# Altium footprint library Footprints.PcbLib: 44 footprints (part 3 of 3)
Each footprint in its own frame and in the unit in brackets; x right, y up, seen from the top. Pads: shape width x height; smd on the part's side, far side on the other; paste and mask are expansions set on the pad; w line width, h text height; cw(c..) or ccw(c..) is an arc to the next point about the centre after c.
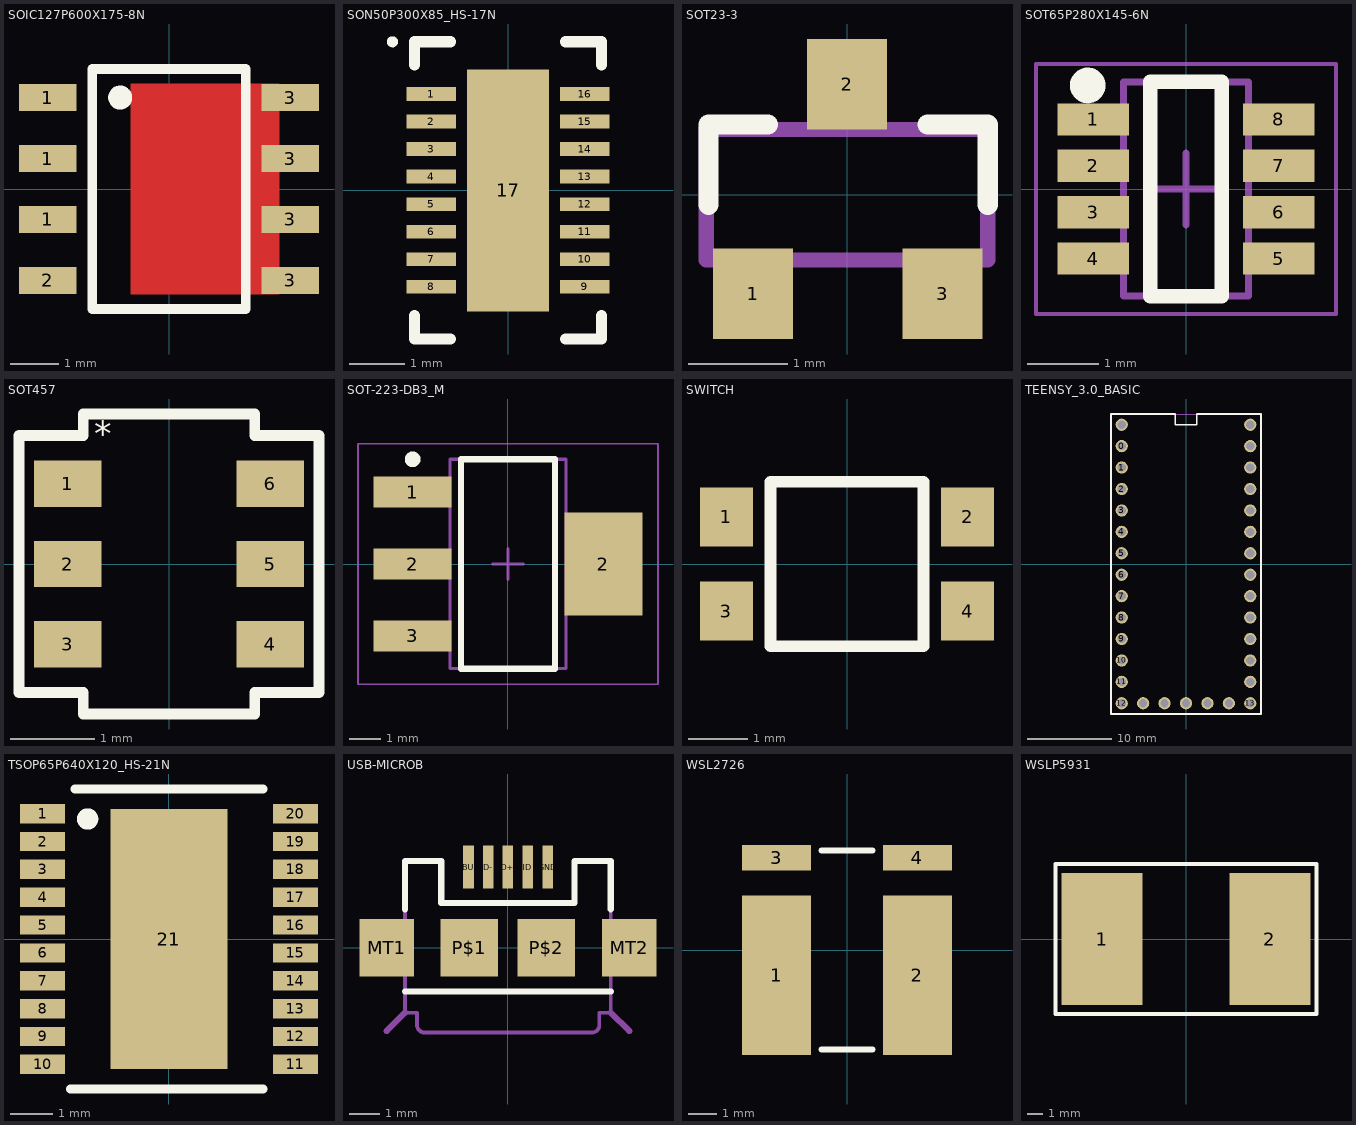
[diagram p2: the footprints below, top view; thin cyan lines are the x and y axes]

## SOIC127P600X175-8N [mm] "SOIC, 8-Leads, Body 4.90x3.90mm, Pitch 1.27mm, IPC Medium Density"
height 1.75
pads (8):
  rect 1.194x0.56 smd: 1(-2.528,-0.635) 1(-2.528,0.635) 1(-2.528,1.905) 2(-2.528,-1.905) 3(2.527,-1.905) 3(2.527,-0.635) 3(2.527,0.635) 3(2.527,1.905)
Top Layer:
  rectangle: -0.8,-2.2 2.3,2.2
Top Overlay:
  circle w0.25: c-1.016,1.905 r0.125
  lines w0.2: -1.6,-2.5 1.6,-2.5 1.6,2.5 -1.6,2.5 -1.6,-2.5
3D body: height 1.75, standoff 0.1, extent -2.025,-2.5 1.975,2.5

## SON50P300X85_HS-17N [mm] "SON, 16-Leads, Body 5.00x3.00mm, Pitch 0.50mm, Thermal Pad 4.40x1.49mm, IPC Medium Density"
height 0.85
pads (17):
  rect 0.9x0.25 smd mask+0.076: 1(-1.395,1.75) 2(-1.395,1.25) 3(-1.395,0.75) 4(-1.395,0.25) 5(-1.395,-0.25) 6(-1.395,-0.75) 7(-1.395,-1.25) 8(-1.395,-1.75) 9(1.395,-1.75) 10(1.395,-1.25) 11(1.395,-0.75) 12(1.395,-0.25) 13(1.395,0.25) 14(1.395,0.75) 15(1.395,1.25) 16(1.395,1.75)
  rect 1.49x4.4 smd mask+0.076: 17(0,0)
Top Overlay:
  circle w0.1: c-2.1,2.7 r0.05
  lines w0.2: -1.7,-2.275 -1.7,-2.7 -1.045,-2.7 ; -1.7,2.275 -1.7,2.7 -1.045,2.7 ; 1.045,-2.7 1.7,-2.7 1.7,-2.275 ; 1.045,2.7 1.7,2.7 1.7,2.275
3D body "User Library-DFN-12.STEP": height 0.8, standoff 0, extent -1.56,-2.05 1.56,2.05

## SOT23-3 [mil]
pads (3):
  rect 32x36 smd: 1(-37.4,-39.37) 2(0,44) 3(38,-39.37)
Top Overlay:
  lines w8: -55.12,-3.94 -55.12,28 -31.5,28 ; 32,28 56,28 56,-3.94
Mechanical 16:
  lines w6: -56,-26 56,-26 56,26 -56,26 -56,-26
3D body "SOT-23.stp": height 39.37, standoff 0, extent -58.07,-50.2 60.04,50.2

## SOT65P280X145-6N [mm] "SOT23, 6-Leads, Body 2.90x2.80mm, Pitch 0.65mm, IPC Medium Density"
height 1.45
pads (8):
  rect 1x0.45 smd mask+0.08: 1(-1.3,0.975) 2(-1.3,0.325) 3(-1.3,-0.325) 4(-1.3,-0.975) 5(1.3,-0.975) 6(1.3,-0.325) 7(1.3,0.325) 8(1.3,0.975)
Top Overlay:
  circle w0.25: c-1.375,1.45 r0.125
  lines w0.2: -0.5,-1.5 0.5,-1.5 0.5,1.5 -0.5,1.5 -0.5,-1.5
Mechanical 13:
  lines w0.1: -0.875,-1.5 -0.875,1.5 0.875,1.5 0.875,-1.5 -0.875,-1.5
Mechanical 15:
  lines w0.05: -2.1,-1.75 -2.1,1.75 2.1,1.75 2.1,-1.75 -2.1,-1.75
  lines w0.1: -0.5,0 0.5,0 ; 0,-0.5 0,0.5
3D body: height 1.45, standoff 0.15, extent -0.875,-1.5 0.875,1.5

## SOT457 [mm]
pads (6):
  rect 0.8x0.55 smd: 1(-1.2,0.95) 2(-1.2,0) 3(-1.2,-0.95) 4(1.2,-0.95) 5(1.2,0) 6(1.2,0.95)
Top Overlay:
  lines w0.127: -1.778,-1.524 -1.778,1.524 -1.016,1.524 -1.016,1.778 1.016,1.778 1.016,1.524 1.778,1.524 1.778,-1.524 1.016,-1.524 1.016,-1.778 -1.016,-1.778 -1.016,-1.524 -1.778,-1.524
  text "*" at -0.889,1.397 h0.3

## SOT-223-DB3_M [mm] "SOT223, 4-Leads, Body 6.5x3.5mm, Pitch 2.3mm, Lead Span 7mm, IPC Low Density"
height 1.8
pads (4):
  rect 2.5x1 smd: 1(-3.05,2.3) 2(-3.05,0) 3(-3.05,-2.3)
  rect 2.5x3.3 smd: 2(3.05,0)
Top Overlay:
  circle w0.25: c-3.05,3.35 r0.125
  lines w0.2: -1.5,-3.35 1.5,-3.35 1.5,3.35 -1.5,3.35 -1.5,-3.35
Mechanical 13:
  lines w0.1: -1.85,-3.35 1.85,-3.35 1.85,3.35 -1.85,3.35 -1.85,-3.35
Mechanical 15:
  lines w0.05: -4.8,-3.85 4.8,-3.85 4.8,3.85 -4.8,3.85 -4.8,-3.85
  lines w0.1: -0.5,0 0.5,0 ; 0,-0.5 0,0.5
3D body: height 1.8, standoff 0.02, extent -1.85,-3.35 1.85,3.35

## SWITCH [mm]
pads (4):
  rect 0.9x1 smd: 1(-2.05,0.8) 2(2.05,0.8) 3(-2.05,-0.8) 4(2.05,-0.8)
Top Overlay:
  lines w0.2: -1.3,-1.4 -1.3,1.4 1.3,1.4 1.3,-1.4 -1.3,-1.4
3D body "KMR4.STEP": height 1.9, standoff 0, extent -2.3,-1.4 2.3,1.4

## TEENSY_3.0_BASIC [mil]
pads (33):
  round 57 hole 38: 0(-300,550) 1(-300,450) 2(-300,350) 3(-300,250) 3.3V(300,450) 3.3V1(-100,-650) 4(-300,150) 5(-300,50) 6(-300,-50) 7(-300,-150) 8(-300,-250) 9(-300,-350) 10(-300,-450) 11(-300,-550) 12(-300,-650) 13(300,-650) 14/A0(300,-550) 15/A1(300,-450) 16/A2(300,-350) 17/A3(300,-250) 18/A4(300,-150) 19/A5(300,-50) 20/A6(300,50) 21/A7(300,150) 22/A8(300,250) 23/A9(300,350) AGND(300,550) GND(-300,650) GND1(0,-650) PGM(100,-650) RESET(200,-650) VBAT(-200,-650) VIN(300,650)
Top Overlay:
  lines w8: -350,-700 350,-700 350,700 50,700 50,650 -50,650 -50,700 -350,700 -350,-700
Mechanical 16:
  lines w5: -350,-700 350,-700 350,700 -350,700 -350,-700
3D body "Teensy 3.1.stp": height 505.09, standoff 334.03, extent -344.37,-708.11 334.37,710
3D body "61300511821.stp": height 335.32, standoff -121.37, extent -259.84,-699.21 259.85,-600.78
3D body "61301411821.stp": height 335.32, standoff -121.37, extent -348.43,-700 -250,719.68
3D body "61301411821.stp": height 335.32, standoff -121.37, extent 250.79,-700 349.21,719.68

## TSOP65P640X120_HS-21N [mm] "TSOP, 20-Leads, Body 6.50x4.40mm, Pitch 0.65mm, Thermal Pad 6.07x2.74mm, IPC Medium Density"
height 1.2
pads (21):
  rect 1.05x0.45 smd: 1(-2.95,2.925) 2(-2.95,2.275) 3(-2.95,1.625) 4(-2.95,0.975) 5(-2.95,0.325) 6(-2.95,-0.325) 7(-2.95,-0.975) 8(-2.95,-1.625) 9(-2.95,-2.275) 10(-2.95,-2.925) 11(2.95,-2.925) 12(2.95,-2.275) 13(2.95,-1.625) 14(2.95,-0.975) 15(2.95,-0.325) 16(2.95,0.325) 17(2.95,0.975) 18(2.95,1.625) 19(2.95,2.275) 20(2.95,2.925)
  rect 2.74x6.07 smd: 21(0,0)
Top Overlay:
  circle w0.25: c-1.9,2.8 r0.125
  lines w0.2: -2.3,-3.5 2.2,-3.5 ; -2.2,3.5 2.2,3.5

## USB-MICROB [mil]
pads (9):
  rect 14x56 smd: D+(0,105) D-(-25.59,105) GND(52,105) ID(26,105) VBUS(-51.18,105)
  rect 71x75 smd: MT1(-157.48,0) MT2(158,0)
  rect 75x75 smd: P$1(-50,0) P$2(50,0)
Top Overlay:
  lines w8: -133.86,-57.09 134,-57.09 ; -133.86,50 -133.86,113 -86.61,113 -86.61,58 87,58 87,113 134,113 134,50
Mechanical 16:
  lines w5: -133.86,-57.09 134,-57.09 ; -133.86,-57.09 -133.86,113 -86.61,113 -86.61,58 87,58 87,113 134,113 134,-57.09 ; -133.86,-57.09 -133.86,-84.65 -118.11,-84.65 -118.11,-100.39 ccw(c-108.76,-100.98) -110.24,-110.24 109,-110.24 ccw(c109.67,-100.8) 119,-102.36 119,-84.65 134,-84.65 134,-57.09
  lines w8: -157.48,-108.27 -133.86,-84.65 ; 134,-84.65 158,-108.27
3D body "micro USB.STEP": height 112.35, standoff -2.75, extent -156.44,-79.76 157.48,133.86

## WSL2726 [mm]
pads (4):
  rect 2.44x5.6 smd: 1(-2.48,-0.89) 2(2.48,-0.89)
  rect 2.44x0.89 smd: 3(-2.48,3.245) 4(2.48,3.245)
Top Overlay:
  lines w0.2: -0.9,-3.5 0.9,-3.5 ; -0.9,3.5 0.9,3.5
3D body "User Library-wsl2726_500u.step": height 2.95, standoff 0, extent -3.425,-3.025 3.475,3.575

## WSLP5931 [mil]
pads (2):
  rect 205x334 smd: 1(-212.5,0) 2(212.5,0)
Top Overlay:
  lines w10: -330,-190 330,-190 330,190 -330,190 -330,132 -330,-190
3D body: height 19.68, standoff 0, extent -311.02,-165.35 311.02,165.35